# Altium integrated library ON Semi PIN Diodes.IntLib: 10 symbols
Pins are listed as number, name and electrical type; pins without a type are passive.

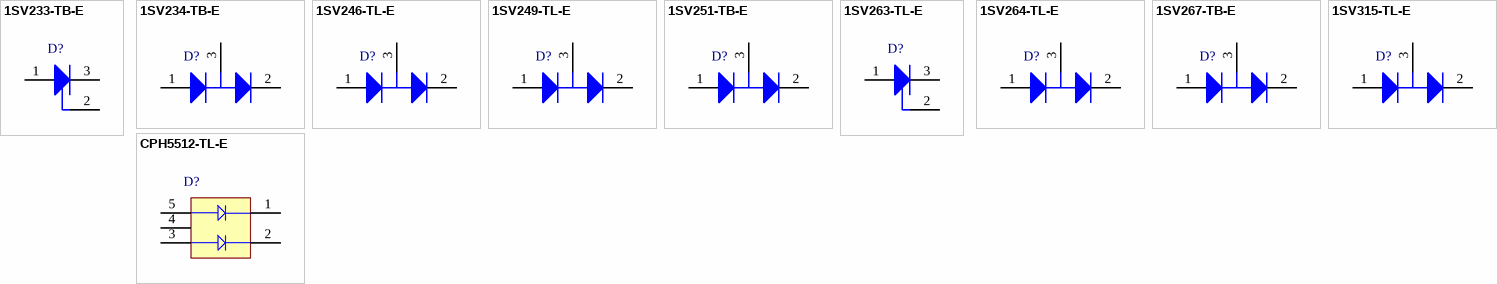
[diagram p0: symbols 1SV233-TB-E to CPH5512-TL-E]

## 1SV233-TB-E
designator D?
Single PIN Diode for VHF, UHF and AGC, 50 V, 50 mA, rS=typ 5 Ohm, 3-Pin CP, Pb-Free, Tape and Reel; Manufacturer: On Semiconductor; PartNumber: 1SV233-TB-E; Forward Voltage: 0.95; Number of Diodes: 1; Reverse Current: 0.1; Reverse Voltage: 50; PackageReference: CP-3-318AN_A; PackageDescription: 3-Pin Small Outline Transistor, Body 2.9 x 1.5 mm, Pitch 0.95 mm; Supplier 1: Digi-Key; Supplier Part Number 1: 1SV233-TB-E-ND; Supplier 2: Mouser; Supplier Part Number 2: 863-1SV233-TB-E; Packing: Tape and Reel; RoHS: TRUE; Mounting Technology: Surface Mount; ComponentLink1Description: Manufacturer URL; ComponentLink1URL: http://www.onsemi.com/; ComponentLink2Description: Datasheet; ComponentLink2URL: http://www.onsemi.com/pub_link/Collateral/EN3088-D.PDF; ComponentLink3Description: Package Specification; ComponentLink3URL: http://www.onsemi.com/pub_link/Collateral/EN6619-D.PDF
footprint ONSC-CP-3-318AN_A_V (SOT23, 3-Leads, Body 2.9x1.5mm, Pitch 0.95mm)
pins: 1 A, 2 NC, 3 K

## 1SV234-TB-E
designator D?
Dual Series PIN Diodes for VHF, UHF and AGC, 50 V, 50 mA, rS=typ 5 Ohm, 3-Pin CP, Pb-Free, Tape and Reel; Manufacturer: On Semiconductor; PartNumber: 1SV234-TB-E; Forward Voltage: 0.95; Number of Diodes: 2; Reverse Current: 0.1; Reverse Voltage: 50; PackageReference: CP-3-318AN_A; PackageDescription: 3-Pin Small Outline Transistor, Body 2.9 x 1.5 mm, Pitch 0.95 mm; Supplier 1: Digi-Key; Supplier Part Number 1: 1SV234-TB-E-ND; Supplier 2: Newark; Supplier Part Number 2: 07W7549; Supplier 3: Mouser; Supplier Part Number 3: 863-1SV234-TB-E; Packing: Tape and Reel; RoHS: TRUE; Mounting Technology: Surface Mount; ComponentLink1Description: Manufacturer URL; ComponentLink1URL: http://www.onsemi.com/; ComponentLink2Description: Datasheet; ComponentLink2URL: http://www.onsemi.com/pub_link/Collateral/1SV234-D.PDF; ComponentLink3Description: Package Specification; ComponentLink3URL: http://www.onsemi.com/pub_link/Collateral/EN6619-D.PDF
footprint ONSC-CP-3-318AN_A_V (SOT23, 3-Leads, Body 2.9x1.5mm, Pitch 0.95mm)
pins: 1 A, 2 K, 3 K/A

## 1SV246-TL-E
designator D?
Dual Series PIN Diodes for VHF, UHF and AGC, 50 V, 50 mA, rS=typ 5 Ohm, 3-Pin MCP, Pb-Free, Tape and Reel; Manufacturer: On Semiconductor; PartNumber: 1SV246-TL-E; Forward Voltage: 0.95; Number of Diodes: 2; Reverse Current: 0.1; Reverse Voltage: 50; PackageReference: MCP-3; PackageDescription: 3-Pin Small Outline Transistor, Body 2 x 1.25 mm, Pitch 0.65 mm; Supplier 1: Digi-Key; Supplier Part Number 1: 1SV246-TL-E-ND; Supplier 2: Mouser; Supplier Part Number 2: 863-1SV246-TL-E; Packing: Tape and Reel; RoHS: TRUE; Mounting Technology: Surface Mount; ComponentLink1Description: Manufacturer URL; ComponentLink1URL: http://www.onsemi.com/; ComponentLink2Description: Datasheet; ComponentLink2URL: http://www.onsemi.com/pub_link/Collateral/EN3906-D.PDF; ComponentLink3Description: Package Specification; ComponentLink3URL: http://www.onsemi.com/pub_link/Collateral/3LP01M-D.PDF
footprint ONSC-MCP-3_V (SOT23, 3-Leads, Body 2.2x1.35mm, Pitch 0.65mm)
pins: 1 A, 2 K, 3 K/A

## 1SV249-TL-E
designator D?
Dual Series PIN Diodes for VHF, UHF and AGC, 50 V, 50 mA, rS=max 4.5 Ohm, 3-Pin MCP, Pb-Free, Tape and Reel; Manufacturer: On Semiconductor; PartNumber: 1SV249-TL-E; Forward Voltage: 0.92; Number of Diodes: 2; Reverse Current: 0.1; Reverse Voltage: 50; PackageReference: MCP-3; PackageDescription: 3-Pin Small Outline Transistor, Body 2 x 1.25 mm, Pitch 0.65 mm; Supplier 1: Digi-Key; Supplier Part Number 1: 1SV249-TL-E-ND; Supplier 2: Newark; Supplier Part Number 2: 07W7551; Supplier 3: Mouser; Supplier Part Number 3: 863-1SV249-TL-E; Packing: Tape and Reel; RoHS: TRUE; Mounting Technology: Surface Mount; ComponentLink1Description: Manufacturer URL; ComponentLink1URL: http://www.onsemi.com/; ComponentLink2Description: Datasheet; ComponentLink2URL: http://www.onsemi.com/pub_link/Collateral/EN4401-D.PDF; ComponentLink3Description: Package Specification; ComponentLink3URL: http://www.onsemi.com/pub_link/Collateral/3LP01M-D.PDF
footprint ONSC-MCP-3_V (SOT23, 3-Leads, Body 2.2x1.35mm, Pitch 0.65mm)
pins: 1 A, 2 K, 3 K/A

## 1SV251-TB-E
designator D?
Dual Series PIN Diodes for VHF, UHF and AGC, 50 V, 50 mA, rS=max 4.5 Ohm, 3-Pin CP, Pb-Free, Tape and Reel; Manufacturer: On Semiconductor; PartNumber: 1SV251-TB-E; Forward Voltage: 0.92; Number of Diodes: 2; Reverse Current: 0.1; Reverse Voltage: 50; PackageReference: CP-3-318AN_A; PackageDescription: 3-Pin Small Outline Transistor, Body 2.9 x 1.5 mm, Pitch 0.95 mm; Supplier 1: Digi-Key; Supplier Part Number 1: 1SV251-TB-E-ND; Supplier 2: Mouser; Supplier Part Number 2: 863-1SV251-TB-E; Packing: Tape and Reel; RoHS: TRUE; Mounting Technology: Surface Mount; ComponentLink1Description: Manufacturer URL; ComponentLink1URL: http://www.onsemi.com/; ComponentLink2Description: Datasheet; ComponentLink2URL: http://www.onsemi.com/pub_link/Collateral/EN4403-D.PDF; ComponentLink3Description: Package Specification; ComponentLink3URL: http://www.onsemi.com/pub_link/Collateral/EN6619-D.PDF
footprint ONSC-CP-3-318AN_A_V (SOT23, 3-Leads, Body 2.9x1.5mm, Pitch 0.95mm)
pins: 1 A, 2 K, 3 K/A

## 1SV263-TL-E
designator D?
Single PIN Diode for VHF, UHF and AGC, 50 V, 50 mA, rS=typ 2.5 Ohm, 3-Pin MCP, Pb-Free, Tape and Reel; Manufacturer: On Semiconductor; PartNumber: 1SV263-TL-E; Forward Voltage: 0.91; Number of Diodes: 1; Reverse Current: 0.1; Reverse Voltage: 50; PackageReference: MCP-3; PackageDescription: 3-Pin Small Outline Transistor, Body 2 x 1.25 mm, Pitch 0.65 mm; Supplier 1: Digi-Key; Supplier Part Number 1: 1SV263-TL-E-ND; Supplier 2: Mouser; Supplier Part Number 2: 863-1SV263-TL-E; Packing: Tape and Reel; RoHS: TRUE; Mounting Technology: Surface Mount; ComponentLink1Description: Manufacturer URL; ComponentLink1URL: http://www.onsemi.com/; ComponentLink2Description: Datasheet; ComponentLink2URL: http://www.onsemi.com/pub_link/Collateral/EN4510-D.PDF; ComponentLink3Description: Package Specification; ComponentLink3URL: http://www.onsemi.com/pub_link/Collateral/3LP01M-D.PDF
footprint ONSC-MCP-3_V (SOT23, 3-Leads, Body 2.2x1.35mm, Pitch 0.65mm)
pins: 1 A, 2 NC, 3 K

## 1SV264-TL-E
designator D?
Dual Series PIN Diodes for VHF, UHF and AGC, 50 V, 50 mA, rS=typ 2.5 Ohm, 3-Pin MCP, Pb-Free, Tape and Reel; Manufacturer: On Semiconductor; PartNumber: 1SV264-TL-E; Forward Voltage: 0.91; Number of Diodes: 2; Reverse Current: 0.1; Reverse Voltage: 50; PackageReference: MCP-3; PackageDescription: 3-Pin Small Outline Transistor, Body 2 x 1.25 mm, Pitch 0.65 mm; Supplier 1: Digi-Key; Supplier Part Number 1: 1SV264-TL-E-ND; Supplier 2: Mouser; Supplier Part Number 2: 863-1SV264-TL-E; Packing: Tape and Reel; RoHS: TRUE; Mounting Technology: Surface Mount; ComponentLink1Description: Manufacturer URL; ComponentLink1URL: http://www.onsemi.com/; ComponentLink2Description: Datasheet; ComponentLink2URL: http://www.onsemi.com/pub_link/Collateral/EN4511-D.PDF; ComponentLink3Description: Package Specification; ComponentLink3URL: http://www.onsemi.com/pub_link/Collateral/3LP01M-D.PDF
footprint ONSC-MCP-3_V (SOT23, 3-Leads, Body 2.2x1.35mm, Pitch 0.65mm)
pins: 1 A, 2 K, 3 K/A

## 1SV267-TB-E
designator D?
Dual Series PIN Diodes for VHF, UHF and AGC, 50 V, 50 mA, rS=typ 2.5 Ohm, 3-Pin CP, Pb-Free, Tape and Reel; Manufacturer: On Semiconductor; PartNumber: 1SV267-TB-E; Forward Voltage: 0.91; Number of Diodes: 2; Reverse Current: 0.1; Reverse Voltage: 50; PackageReference: CP-3-318AN_A; PackageDescription: 3-Pin Small Outline Transistor, Body 2.9 x 1.5 mm, Pitch 0.95 mm; Supplier 1: Digi-Key; Supplier Part Number 1: 1SV267-TB-E-ND; Supplier 2: Mouser; Supplier Part Number 2: 863-1SV267-TB-E; Packing: Tape and Reel; RoHS: TRUE; Mounting Technology: Surface Mount; ComponentLink1Description: Manufacturer URL; ComponentLink1URL: http://www.onsemi.com/; ComponentLink2Description: Datasheet; ComponentLink2URL: http://www.onsemi.com/pub_link/Collateral/EN4514-D.PDF; ComponentLink3Description: Package Specification; ComponentLink3URL: http://www.onsemi.com/pub_link/Collateral/EN6619-D.PDF
footprint ONSC-CP-3-318AN_A_V (SOT23, 3-Leads, Body 2.9x1.5mm, Pitch 0.95mm)
pins: 1 A, 2 K, 3 K/A

## 1SV315-TL-E
designator D?
Dual Series PIN Diodes for VHF, UHF and AGC, 50 V, 50 mA, rS=typ 6 Ohm, 3-Pin MCP, Pb-Free, Tape and Reel; Manufacturer: On Semiconductor; PartNumber: 1SV315-TL-E; Forward Voltage: 0.95; Number of Diodes: 2; Reverse Current: 0.1; Reverse Voltage: 50; PackageReference: MCP-3; PackageDescription: 3-Pin Small Outline Transistor, Body 2 x 1.25 mm, Pitch 0.65 mm; Supplier 1: Digi-Key; Supplier Part Number 1: 1SV315-TL-E-ND; Supplier 2: Mouser; Supplier Part Number 2: 863-1SV315-TL-E; Packing: Tape and Reel; RoHS: TRUE; Mounting Technology: Surface Mount; ComponentLink1Description: Manufacturer URL; ComponentLink1URL: http://www.onsemi.com/; ComponentLink2Description: Datasheet; ComponentLink2URL: http://www.onsemi.com/pub_link/Collateral/EN6261-D.PDF; ComponentLink3Description: Package Specification; ComponentLink3URL: http://www.onsemi.com/pub_link/Collateral/3LP01M-D.PDF
footprint ONSC-MCP-3_V (SOT23, 3-Leads, Body 2.2x1.35mm, Pitch 0.65mm)
pins: 1 A, 2 K, 3 K/A

## CPH5512-TL-E
designator D?
Dual Parallel PIN Diodes for VHF, UHF and AGC, 50 V, 50 mA, 5-Pin CPH, Pb-Free, Tape and Reel; Manufacturer: On Semiconductor; PartNumber: CPH5512-TL-E; Forward Voltage: 0.95; Number of Diodes: 2; Reverse Current: 0.1; Reverse Voltage: 50; PackageReference: CPH-5; PackageDescription: 5-Pin Small Outline Transistor, Body 2.9 x 1.6 mm, Pitch 0.95 mm; Supplier 1: Digi-Key; Supplier Part Number 1: CPH5512-TL-E-ND; Supplier 2: Newark; Supplier Part Number 2: 07W6746; Supplier 3: Mouser; Supplier Part Number 3: 863-CPH5512-TL-E; Packing: Tape and Reel; RoHS: TRUE; Mounting Technology: Surface Mount; ComponentLink1Description: Manufacturer URL; ComponentLink1URL: http://www.onsemi.com/; ComponentLink2Description: Datasheet; ComponentLink2URL: http://www.onsemi.com/pub_link/Collateral/CPH5512-D.PDF; ComponentLink3Description: Package Specification; ComponentLink3URL: http://www.onsemi.com/pub_link/Collateral/CPH5504-D.PDF
footprint ONSC-CPH-5_V (SOT23, 5-Leads, Body 2.9x1.6mm, Pitch 0.95mm)
pins: 1 K, 2 K, 3 A, 4 NC, 5 A